# Altium schematic symbol library Resistors.SchLib: 67 symbols (part 2 of 6)
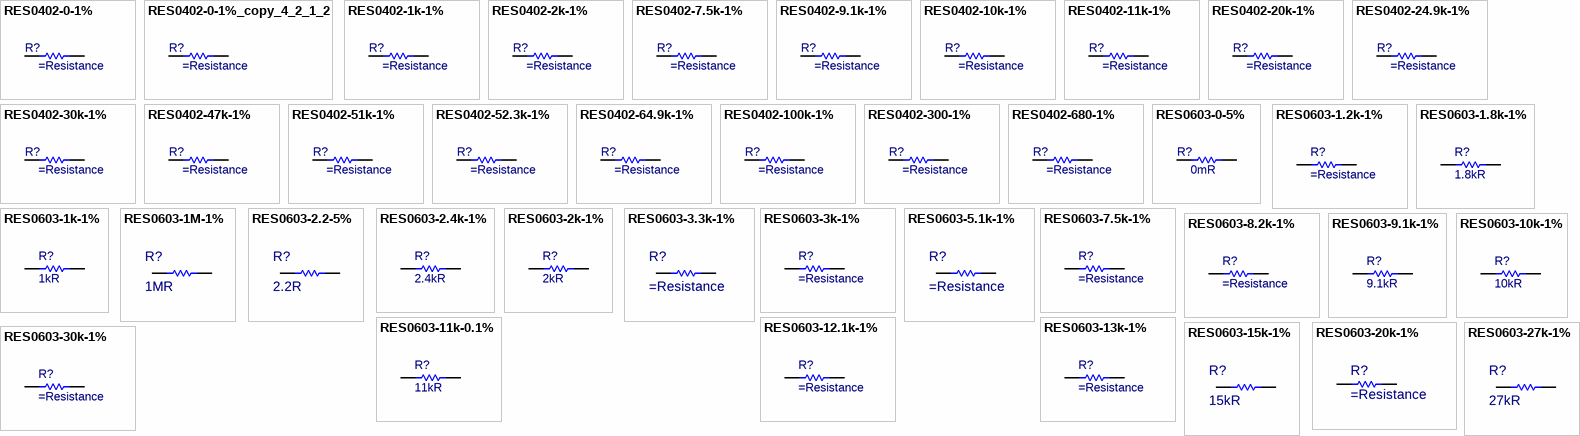
[diagram p3: symbols RES0402-0-1% to RES0603-30k-1%]

## RES0402-300-1%
designator R?
Fixed Resistor, Metal Glaze/thick Film, 0.063W, 300ohm, 50V, 1% +/-Tol, 100ppm/Cel, Surface Mount, 0402; Manufacturer: Vishay; Manufacturer Part Number: CRCW0402300RFKTD; Resistance: 300Ω; Max Power Dissipation: 63mW; Value: 300Ω; Temperature Coefficient: 100ppm/°C; Supplier 1: DigiKey; Supplier Part Number 1: CRCW0402300RFKTD-ND; Supplier: DigiKey; Supplier Part Number: CRCW0402300RFKTD-ND; Category: Chip SMD Resistors; Pricing: 10000=0,0229 (USD); Case/Package: 0402; Case Code (Metric): 0402; Composition: Thick Film; Contact Plating: Lead, Tin; Depth: 500µm; Features: Automotive AEC-Q200; Height: 350µm; Lead Free: Contains Lead; Length: 990.6µm; Lifecycle Status: Production; Max Operating Temperature: 155°C; Military Standard: Not; Min Operating Temperature: -55°C; Mounting Technology: Surface Mount; Number of Terminals: 2; Number of Terminations: 2; Packaging: Tape & Reel (TR); Power Dissipation: 63mW; Power Rating: 63mW; Radiation Hardening: No; REACH SVHC: No; RoHS: Non-Compliant; Tolerance: 1%; Voltage Rating (DC): 50V; Width: 500µm; Working Voltage: 50V; ComponentLink1URL: https://datasheet.octopart.com:443/CRCW0402300RFKTD-Vishay-datasheet-175863636.pdf?src-supplier=IHS; ComponentLink1Description: https://datasheet.octopart.com:443/CRCW0402300RFKTD-Vishay-datasheet-175863636.pdf?src-supplier=IHS; ComponentLink2URL: https://datasheet.octopart.com:443/CRCW0402300RFKTD-Vishay-datasheet-182027442.pdf?src-supplier=IHS; ComponentLink2Description: https://datasheet.octopart.com:443/CRCW0402300RFKTD-Vishay-datasheet-182027442.pdf?src-supplier=IHS; ComponentLink3URL: https://datasheet.octopart.com:443/CRCW0402300RFKTD-Vishay-datasheet-183883876.pdf?src-supplier=Newark; ComponentLink3Description: https://datasheet.octopart.com:443/CRCW0402300RFKTD-Vishay-datasheet-183883876.pdf?src-supplier=Newark; ComponentLink4URL: https://datasheet.octopart.com/D-CRCW-Lead-%28Pb%29-Bearing-Thick-Film%2C-Rectangular-Chip-Resistors-Vishay-datasheet-family-72.pdf; ComponentLink4Description: https://datasheet.octopart.com/D-CRCW-Lead-%28Pb%29-Bearing-Thick-Film%2C-Rectangular-Chip-Resistors-Vishay-datasheet-family-72.pdf; ComponentLink5URL: https://datasheet.octopart.com/CRCW0402300RFKTD-Vishay-datasheet-13242068.pdf; ComponentLink5Description: https://datasheet.octopart.com/CRCW0402300RFKTD-Vishay-datasheet-13242068.pdf; ComponentLink6URL: https://datasheet.octopart.com/CRCW0402300RFKTD-Vishay-datasheet-13195083.pdf; ComponentLink6Description: https://datasheet.octopart.com/CRCW0402300RFKTD-Vishay-datasheet-13195083.pdf; ComponentLink7URL: https://datasheet.octopart.com/CRCW0402300RFKTD-Vishay-datasheet-13034211.pdf; ComponentLink7Description: https://datasheet.octopart.com/CRCW0402300RFKTD-Vishay-datasheet-13034211.pdf; ComponentLink8URL: https://datasheet.octopart.com/CRCW0402300RFKTD-Vishay-datasheet-12600034.pdf; ComponentLink8Description: https://datasheet.octopart.com/CRCW0402300RFKTD-Vishay-datasheet-12600034.pdf; ComponentLink9URL: https://datasheet.octopart.com/CRCW0402300RFKTD-Vishay-datasheet-12532161.pdf; ComponentLink9Description: https://datasheet.octopart.com/CRCW0402300RFKTD-Vishay-datasheet-12532161.pdf; ComponentLink10URL: https://datasheet.octopart.com/CRCW0402300RFKTD-Vishay-datasheet-12517896.pdf; ComponentLink10Description: https://datasheet.octopart.com/CRCW0402300RFKTD-Vishay-datasheet-12517896.pdf; ComponentLink11URL: https://datasheet.octopart.com/CRCW0402300RFKTD-Vishay-datasheet-12509762.pdf; ComponentLink11Description: https://datasheet.octopart.com/CRCW0402300RFKTD-Vishay-datasheet-12509762.pdf; ComponentLink12URL: https://datasheet.octopart.com/CRCW0402300RFKTD-Vishay-datasheet-10322335.pdf; ComponentLink12Description: https://datasheet.octopart.com/CRCW0402300RFKTD-Vishay-datasheet-10322335.pdf; ComponentLink13URL: https://datasheet.octopart.com/CRCW0402300RFKTD-Vishay-datasheet-8788789.pdf; ComponentLink13Description: https://datasheet.octopart.com/CRCW0402300RFKTD-Vishay-datasheet-8788789.pdf; ComponentLink14URL: https://datasheet.octopart.com/CRCW0402300RFKTD-Vishay-datasheet-8361388.pdf; ComponentLink14Description: https://datasheet.octopart.com/CRCW0402300RFKTD-Vishay-datasheet-8361388.pdf; ComponentLink15URL: https://datasheet.octopart.com/CRCW0402300RFKTD-Vishay-datasheet-5306405.pdf; ComponentLink15Description: https://datasheet.octopart.com/CRCW0402300RFKTD-Vishay-datasheet-5306405.pdf; ComponentLink16URL: https://datasheet.octopart.com/CRCW0402300RFKTD-Vishay-datasheet-546287.pdf; ComponentLink16Description: https://datasheet.octopart.com/CRCW0402300RFKTD-Vishay-datasheet-546287.pdf; ComponentLink17URL: http://sigma.octopart.com:80/rohs_statement/Vishay-company-15.pdf?src-supplier=Compliance+Statements; ComponentLink17Description: http://sigma.octopart.com:80/rohs_statement/Vishay-company-15.pdf?src-supplier=Compliance+Statements
footprint R0402 (Chip Resistor, 2-Leads, Body 1.75x0.95mm)
pins: 1, 2

## RES0402-680-1%
designator R?
Res Thick Film 0402 680 Ohm 1% 0.063W(1/16W) ±100ppm/C Pad SMD T/R; Manufacturer: Vishay; Manufacturer Part Number: CRCW0402680RFKEDC; Resistance: 680Ω; Power Dissipation: 63mW; Value: 680Ω; Temperature Coefficient: 100ppm/°C; Working Voltage: 50V; Supplier 1: DigiKey; Supplier Part Number 1: 541-4073-1-ND; Supplier: DigiKey; Supplier Part Number: 541-4073-1-ND; RoHS: Compliant; Category: Chip SMD Resistors; Stock: 206901; Pricing: 1=0,1, 10=0,028, 25=0,0208, 50=0,0168, 100=0,0138, 250=0,01072, 500=0,009, 1000=0,00766, 5000=0,00554 (USD); Case/Package: 0402; China RoHS: Non-Compliant; Height: 300µm; Lead Free: Lead Free; Lifecycle Status: Production; Max Operating Temperature: 155°C; Min Operating Temperature: -55°C; Mounting Technology: Surface Mount; Number of Terminals: 2; Power Rating: 63mW; REACH SVHC: Yes; Schedule B: 8533210045, 8533210045|8533210045|8533210045|8533210045|8533210045; Tolerance: 1%; Width: 500µm; ComponentLink1URL: https://datasheet.octopart.com:443/CRCW0402680RFKEDC-Vishay-datasheet-175423585.pdf?src-supplier=IHS; ComponentLink1Description: https://datasheet.octopart.com:443/CRCW0402680RFKEDC-Vishay-datasheet-175423585.pdf?src-supplier=IHS; ComponentLink2URL: https://datasheet.octopart.com:443/CRCW0402680RFKEDC-Vishay-datasheet-102570912.pdf?src-supplier=Future+Electronics; ComponentLink2Description: https://datasheet.octopart.com:443/CRCW0402680RFKEDC-Vishay-datasheet-102570912.pdf?src-supplier=Future+Electronics; ComponentLink3URL: https://datasheet.octopart.com:443/CRCW0402680RFKEDC-Vishay-datasheet-62316122.pdf?src-supplier=Future+Electronics; ComponentLink3Description: https://datasheet.octopart.com:443/CRCW0402680RFKEDC-Vishay-datasheet-62316122.pdf?src-supplier=Future+Electronics; ComponentLink4URL: http://sigma.octopart.com:80/rohs_statement/Vishay-company-15.pdf?src-supplier=Compliance+Statements; ComponentLink4Description: http://sigma.octopart.com:80/rohs_statement/Vishay-company-15.pdf?src-supplier=Compliance+Statements
footprint R0402 (Chip Resistor, 2-Leads, Body 1.75x0.95mm)
pins: 1, 2

## RES0603-0-5%
designator R?, comment 0mR
RES SMD 0 OHM JUMPER 1/10W 0603; Manufacturer: Bourns; Manufacturer Part Number: CR0603-J/-000ELF; Temperature Coefficient: 500ppm/°C; Max Power Dissipation: 100mW; Voltage Rating (DC): 50V; Tolerance: 1%; ComponentLink1URL: https://datasheet.ciiva.com/9122/chpreztr-9122363.pdf; ComponentLink1Description: https://datasheet.ciiva.com/9122/chpreztr-9122363.pdf; ComponentLink2URL: https://datasheet.ciiva.com/22713/691949-22713239.pdf?src-supplier=Element14; ComponentLink2Description: https://datasheet.ciiva.com/22713/691949-22713239.pdf?src-supplier=Element14; ComponentLink3URL: https://datasheet.ciiva.com/23776/1902866-23776391.pdf?src-supplier=Newark; ComponentLink3Description: https://datasheet.ciiva.com/23776/1902866-23776391.pdf?src-supplier=Newark; ComponentLink4URL: https://datasheet.ciiva.com/16766/70154685-16766760.pdf?src-supplier=Allied+Electronics; ComponentLink4Description: https://datasheet.ciiva.com/16766/70154685-16766760.pdf?src-supplier=Allied+Electronics; ComponentLink5URL: https://datasheet.ciiva.com/30229/159chpreztr-30229129.pdf?src-supplier=Onlinecomponents.com; ComponentLink5Description: https://datasheet.ciiva.com/30229/159chpreztr-30229129.pdf?src-supplier=Onlinecomponents.com; ComponentLink6URL: https://datasheet.ciiva.com/16935/chpreztr-16935963.pdf?src-supplier=Avnet+Europe; ComponentLink6Description: https://datasheet.ciiva.com/16935/chpreztr-16935963.pdf?src-supplier=Avnet+Europe; ComponentLink7URL: https://datasheet.ciiva.com/5543/chpreztr-5543676.pdf?src-supplier=Mouser; ComponentLink7Description: https://datasheet.ciiva.com/5543/chpreztr-5543676.pdf?src-supplier=Mouser; ComponentLink8URL: https://datasheet.ciiva.com/9120/chpreztr-9120764.pdf?src-supplier=Avnet; ComponentLink8Description: https://datasheet.ciiva.com/9120/chpreztr-9120764.pdf?src-supplier=Avnet; ComponentLink9URL: https://datasheet.ciiva.com/46383/1791942-46383790.pdf?src-supplier=Element14; ComponentLink9Description: https://datasheet.ciiva.com/46383/1791942-46383790.pdf?src-supplier=Element14; ComponentLink10URL: https://datasheet.ciiva.com/48692/001055501-da-01-en-smd-wid-cr0603-jw-104elf-100k-ohm-1-10w-48692133.pdf?src-supplier=Conrad; ComponentLink10Description: https://datasheet.ciiva.com/48692/001055501-da-01-en-smd-wid-cr0603-jw-104elf-100k-ohm-1-10w-48692133.pdf?src-supplier=Conrad; ComponentLink11URL: https://datasheet.ciiva.com/39121/775172-39121475.pdf?src-supplier=Jameco; ComponentLink11Description: https://datasheet.ciiva.com/39121/775172-39121475.pdf?src-supplier=Jameco; ComponentLink12URL: https://datasheet.ciiva.com/30052/159chpreztr-30052709.pdf?src-supplier=Onlinecomponents.com; ComponentLink12Description: https://datasheet.ciiva.com/30052/159chpreztr-30052709.pdf?src-supplier=Onlinecomponents.com; ComponentLink13URL: https://datasheet.ciiva.com/16935/chpreztr-16935910.pdf?src-supplier=Avnet+Europe; ComponentLink13Description: https://datasheet.ciiva.com/16935/chpreztr-16935910.pdf?src-supplier=Avnet+Europe; ComponentLink14URL: https://datasheet.ciiva.com/46383/1791942-46383767.pdf?src-supplier=Element14; ComponentLink14Description: https://datasheet.ciiva.com/46383/1791942-46383767.pdf?src-supplier=Element14; ComponentLink15URL: https://datasheet.ciiva.com/7986/1902866-7986185.pdf?src-supplier=Element14; ComponentLink15Description: https://datasheet.ciiva.com/7986/1902866-7986185.pdf?src-supplier=Element14; ComponentLink16URL: https://datasheet.ciiva.com/6547/chpreztr-6547278.pdf?src-supplier=Digi-Key; ComponentLink16Description: https://datasheet.ciiva.com/6547/chpreztr-6547278.pdf?src-supplier=Digi-Key; ComponentLink17URL: https://datasheet.ciiva.com/6547/chpreztr-6547279.pdf?src-supplier=Digi-Key; ComponentLink17Description: https://datasheet.ciiva.com/6547/chpreztr-6547279.pdf?src-supplier=Digi-Key; ComponentLink18URL: https://datasheet.ciiva.com/16757/70154685-16757477.pdf?src-supplier=Allied+Electronics; ComponentLink18Description: https://datasheet.ciiva.com/16757/70154685-16757477.pdf?src-supplier=Allied+Electronics; ComponentLink19URL: https://datasheet.ciiva.com/22713/691949-22713237.pdf?src-supplier=Element14; ComponentLink19Description: https://datasheet.ciiva.com/22713/691949-22713237.pdf?src-supplier=Element14; ComponentLink20URL: https://datasheet.ciiva.com/6564/chpreztr-6564439.pdf?src-supplier=Digi-Key; ComponentLink20Description: https://datasheet.ciiva.com/6564/chpreztr-6564439.pdf?src-supplier=Digi-Key; ComponentLink21URL: https://datasheet.ciiva.com/16935/chpreztr-16935928.pdf?src-supplier=Avnet+Europe; ComponentLink21Description: https://datasheet.ciiva.com/16935/chpreztr-16935928.pdf?src-supplier=Avnet+Europe; ComponentLink22URL: https://datasheet.ciiva.com/6564/chpreztr-6564441.pdf?src-supplier=Digi-Key; ComponentLink22Description: https://datasheet.ciiva.com/6564/chpreztr-6564441.pdf?src-supplier=Digi-Key; ComponentLink23URL: https://datasheet.ciiva.com/9123/chpreztr-9123706.pdf?src-supplier=Avnet; ComponentLink23Description: https://datasheet.ciiva.com/9123/chpreztr-9123706.pdf?src-supplier=Avnet; ComponentLink24URL: https://datasheet.ciiva.com/7986/1902866-7986188.pdf?src-supplier=Element14; ComponentLink24Description: https://datasheet.ciiva.com/7986/1902866-7986188.pdf?src-supplier=Element14; ComponentLink25URL: https://datasheet.ciiva.com/46383/691949-46383788.pdf?src-supplier=Element14; ComponentLink25Description: https://datasheet.ciiva.com/46383/691949-46383788.pdf?src-supplier=Element14; ComponentLink26URL: https://datasheet.ciiva.com/11808/0900766b80fcdb72-11808035.pdf?src-supplier=RSComponents; ComponentLink26Description: https://datasheet.ciiva.com/11808/0900766b80fcdb72-11808035.pdf?src-supplier=RSComponents; ComponentLink27URL: https://datasheet.ciiva.com/19466/774882-19466523.pdf?src-supplier=Jameco; ComponentLink27Description: https://datasheet.ciiva.com/19466/774882-19466523.pdf?src-supplier=Jameco; ComponentLink28URL: https://datasheet.ciiva.com/6547/chpreztr-6547349.pdf?src-supplier=Digi-Key; ComponentLink28Description: https://datasheet.ciiva.com/6547/chpreztr-6547349.pdf?src-supplier=Digi-Key; ComponentLink29URL: https://datasheet.ciiva.com/16941/chpreztr-16941637.pdf?src-supplier=Avnet+Europe; ComponentLink29Description: https://datasheet.ciiva.com/16941/chpreztr-16941637.pdf?src-supplier=Avnet+Europe; ComponentLink30URL: https://datasheet.ciiva.com/22693/1902866-22693205.pdf?src-supplier=Element14; ComponentLink30Description: https://datasheet.ciiva.com/22693/1902866-22693205.pdf?src-supplier=Element14; ComponentLink31URL: https://datasheet.ciiva.com/6547/chpreztr-6547350.pdf?src-supplier=Digi-Key; ComponentLink31Description: https://datasheet.ciiva.com/6547/chpreztr-6547350.pdf?src-supplier=Digi-Key; ComponentLink32URL: https://datasheet.ciiva.com/7001/1902866-7001622.pdf?src-supplier=Newark; ComponentLink32Description: https://datasheet.ciiva.com/7001/1902866-7001622.pdf?src-supplier=Newark; ComponentLink33URL: https://datasheet.ciiva.com/30115/159chpreztr-30115222.pdf?src-supplier=Onlinecomponents.com; ComponentLink33Description: https://datasheet.ciiva.com/30115/159chpreztr-30115222.pdf?src-supplier=Onlinecomponents.com; ComponentLink34URL: https://datasheet.ciiva.com/6547/chpreztr-6547351.pdf?src-supplier=Digi-Key; ComponentLink34Description: https://datasheet.ciiva.com/6547/chpreztr-6547351.pdf?src-supplier=Digi-Key; ComponentLink35URL: https://datasheet.ciiva.com/16757/70154685-16757482.pdf?src-supplier=Allied+Electronics; ComponentLink35Description: https://datasheet.ciiva.com/16757/70154685-16757482.pdf?src-supplier=Allied+Electronics; ComponentLink36URL: https://datasheet.ciiva.com/5546/chpreztr-5546283.pdf?src-supplier=Mouser; ComponentLink36Description: https://datasheet.ciiva.com/5546/chpreztr-5546283.pdf?src-supplier=Mouser; ComponentLink37URL: https://datasheet.ciiva.com/7986/691949-7986156.pdf?src-supplier=Element14; ComponentLink37Description: https://datasheet.ciiva.com/7986/691949-7986156.pdf?src-supplier=Element14; ComponentLink38URL: https://datasheet.ciiva.com/3255/chpreztr-3255917.pdf?src-supplier=Avnet; ComponentLink38Description: https://datasheet.ciiva.com/3255/chpreztr-3255917.pdf?src-supplier=Avnet; ComponentLink39URL: https://datasheet.ciiva.com/5547/chpreztr-5547814.pdf?src-supplier=Mouser; ComponentLink39Description: https://datasheet.ciiva.com/5547/chpreztr-5547814.pdf?src-supplier=Mouser; ComponentLink40URL: https://datasheet.ciiva.com/18594/chpreztr-18594942.pdf?src-supplier=Digi-Key; ComponentLink40Description: https://datasheet.ciiva.com/18594/chpreztr-18594942.pdf?src-supplier=Digi-Key; ComponentLink41URL: https://datasheet.ciiva.com/18594/chpreztr-18594943.pdf?src-supplier=Digi-Key; ComponentLink41Description: https://datasheet.ciiva.com/18594/chpreztr-18594943.pdf?src-supplier=Digi-Key; ComponentLink42URL: https://datasheet.ciiva.com/9119/chpreztr-9119642.pdf?src-supplier=Avnet; ComponentLink42Description: https://datasheet.ciiva.com/9119/chpreztr-9119642.pdf?src-supplier=Avnet; ComponentLink43URL: https://datasheet.ciiva.com/14986/chpreztr-14986477.pdf?src-supplier=Digi-Key; ComponentLink43Description: https://datasheet.ciiva.com/14986/chpreztr-14986477.pdf?src-supplier=Digi-Key; ComponentLink44URL: https://datasheet.ciiva.com/5545/chpreztr-5545629.pdf?src-supplier=Mouser; ComponentLink44Description: https://datasheet.ciiva.com/5545/chpreztr-5545629.pdf?src-supplier=Mouser; ComponentLink45URL: https://datasheet.ciiva.com/9122/chpreztr-9122039.pdf?src-supplier=Avnet; ComponentLink45Description: https://datasheet.ciiva.com/9122/chpreztr-9122039.pdf?src-supplier=Avnet; ComponentLink46URL: https://datasheet.ciiva.com/16937/chpreztr-16937562.pdf?src-supplier=Avnet+Europe; ComponentLink46Description: https://datasheet.ciiva.com/16937/chpreztr-16937562.pdf?src-supplier=Avnet+Europe; Supplier 1: Digi-Key; RoHS: Yes; Category: Chip SMD Resistors; Stock 1: 260094; Pricing 1: 1=0,10000, 10=0,01400, 25=0,01040, 50=0,00800, 100=0,00580, 250=0,00444, 500=0,00356, 1000=0,00262 (USD); Mount: Surface Mount; Case/Package: 0603; Number of Pins: 2; Contact Plating: Tin; Case Code (Imperial): 0603; Case Code (Metric): 1608; Min Operating Temperature: -55°C; Max Operating Temperature: 155°C; Resistance: 0mR; Composition: Thick Film; Termination: SMD/SMT; Military Standard: Not; Packaging: Tape and Reel; Power Rating: 100mW; Voltage Rating: 50V; Package Quantity: 5000; Length: 1.6mm; Height: 0.45mm; Depth: 0.8mm; Thickness: 457um; Width: 0.8mm; Radiation Hardening: No; REACH SVHC: No SVHC; ComponentLink47URL: https://datasheet.ciiva.com/11809/0900766b80fcdb72-11809586.pdf?src-supplier=RSComponents; ComponentLink47Description: https://datasheet.ciiva.com/11809/0900766b80fcdb72-11809586.pdf?src-supplier=RSComponents; ComponentLink48URL: https://datasheet.ciiva.com/16939/chpreztr-16939623.pdf?src-supplier=Avnet+Europe; ComponentLink48Description: https://datasheet.ciiva.com/16939/chpreztr-16939623.pdf?src-supplier=Avnet+Europe; ComponentLink49URL: https://datasheet.ciiva.com/30062/159chpreztr-30062601.pdf?src-supplier=Onlinecomponents.com; ComponentLink49Description: https://datasheet.ciiva.com/30062/159chpreztr-30062601.pdf?src-supplier=Onlinecomponents.com; ComponentLink50URL: https://datasheet.ciiva.com/7986/691949-7986171.pdf?src-supplier=Element14; ComponentLink50Description: https://datasheet.ciiva.com/7986/691949-7986171.pdf?src-supplier=Element14; ComponentLink51URL: https://datasheet.ciiva.com/16761/70154685-16761515.pdf?src-supplier=Allied+Electronics; ComponentLink51Description: https://datasheet.ciiva.com/16761/70154685-16761515.pdf?src-supplier=Allied+Electronics; ComponentLink52URL: https://datasheet.ciiva.com/5545/chpreztr-5545708.pdf?src-supplier=Mouser; ComponentLink52Description: https://datasheet.ciiva.com/5545/chpreztr-5545708.pdf?src-supplier=Mouser; ComponentLink53URL: https://datasheet.ciiva.com/7660/1856384-7660956.pdf?src-supplier=Element14; ComponentLink53Description: https://datasheet.ciiva.com/7660/1856384-7660956.pdf?src-supplier=Element14; ComponentLink54URL: https://datasheet.ciiva.com/7001/1902866-7001645.pdf?src-supplier=Newark; ComponentLink54Description: https://datasheet.ciiva.com/7001/1902866-7001645.pdf?src-supplier=Newark; ComponentLink55URL: https://datasheet.ciiva.com/22693/1902866-22693213.pdf?src-supplier=Element14; ComponentLink55Description: https://datasheet.ciiva.com/22693/1902866-22693213.pdf?src-supplier=Element14; ComponentLink56URL: https://datasheet.ciiva.com/48692/001055497-da-01-en-smd-wid-cr0603-j-000elf-0-0-ohm-1-10w-48692135.pdf?src-supplier=Conrad; ComponentLink56Description: https://datasheet.ciiva.com/48692/001055497-da-01-en-smd-wid-cr0603-j-000elf-0-0-ohm-1-10w-48692135.pdf?src-supplier=Conrad; Supplier Part Number 1: CR0603-J/-000ELFCT-ND
footprint R0603 (Chip Resistor, 2-Leads, Body 1.75x0.95mm)
pins: 1, 2

## RES0603-1.2k-1%
designator R?
RES 1.2K OHM 1% 1/10W 0603; Manufacturer: TE Connectivity; Manufacturer Part Number: CRGCQ0603F1K2; Manufacturer Lifecycle Status: ACTIVE; Resistance: 1.2kΩ; Operating Supply Voltage: 75V; Power Dissipation: 100mW; Value: 1.2kΩ; Temperature Coefficient: 100ppm/°C; Supplier 1: DigiKey; Supplier Part Number 1: A129689CT-ND; Supplier: DigiKey; Supplier Part Number: A129689CT-ND; RoHS: Compliant; Category: Chip SMD Resistors; Stock: 33667; Pricing: 1=0,1, 10=0,029, 25=0,0212, 50=0,0172, 100=0,014, 250=0,01092, 500=0,00918, 1000=0,00782 (USD); Ambient Temperature Range High: 70°C; Case/Package: 0603; China RoHS: Non-Compliant; Composition: Thick Film; Height: 450µm; Lifecycle Status: Production; Max Operating Temperature: 155°C; Min Operating Temperature: -55°C; Mounting Technology: Surface Mount; Number of Terminals: 2; Packaging: Cut Tape; Power Rating: 100mW; REACH SVHC: Yes; Schedule B: 8533210025, 8533210025|8533210025|8533210025|8533210025|8533210025, 8533210045; Tolerance: 1%; Voltage Rating: 75V; Voltage Rating (DC): 75V; Width: 800µm; Working Voltage: 75V; ComponentLink1URL: https://datasheet.octopart.com:443/CRGCQ0603F1K2-TE-Connectivity-datasheet-114679081.pdf?src-supplier=Master+Electronics; ComponentLink1Description: https://datasheet.octopart.com:443/CRGCQ0603F1K2-TE-Connectivity-datasheet-114679081.pdf?src-supplier=Master+Electronics; ComponentLink2URL: https://datasheet.octopart.com:443/2-2176339-6-TE-Connectivity---AMP-datasheet-189108688.pdf?src-supplier=Master+Electronics; ComponentLink2Description: https://datasheet.octopart.com:443/2-2176339-6-TE-Connectivity---AMP-datasheet-189108688.pdf?src-supplier=Master+Electronics; ComponentLink3URL: https://sigma.octopart.com:443/114683329/technical_drawing/TE-Connectivity-CRGCQ0603F1K2.pdf?src-supplier=Sager+Electronics; ComponentLink3Description: https://sigma.octopart.com:443/114683329/technical_drawing/TE-Connectivity-CRGCQ0603F1K2.pdf?src-supplier=Sager+Electronics
footprint R0603 (Chip Resistor, 2-Leads, Body 1.75x0.95mm)
pins: 1, 2

## RES0603-1.8k-1%
designator R?, comment 1.8kR
RES SMD 1.8K OHM 1% 1/10W 0603; Manufacturer: Bourns; Manufacturer Part Number: CR0603-FX-1801ELF; Max Power Dissipation: 100mW; Value: 1.8kΩ; Temperature Coefficient: 100ppm/°C; Voltage Rating: 75V; Voltage Rating (DC): 50V; Resistance: 1.8kR; Supplier: DigiKey; Supplier Part Number: CR0603-FX-1801ELFCT-ND; RoHS: Compliant; Category: Chip SMD Resistors; Stock: 12777; Pricing: 1=0,1, 10=0,02, 25=0,0144, 50=0,0114, 100=0,0091, 250=0,00696, 500=0,00576, 1000=0,0048 (USD); Case/Package: 0603; Case Code (Imperial): 0603; Case Code (Metric): 1608; China RoHS: Non-Compliant; Composition: Thick Film; Contact Plating: Tin; Depth: 800µm; Features: Moisture Resistant; Height: 450µm; Lifecycle Status: Production; Max Operating Temperature: 155°C; Military Standard: Not; Min Operating Temperature: -55°C; Mounting Technology: Surface Mount; Number of Terminals: 2; Number of Terminations: 2; Packaging: Tape & Reel; Power Dissipation: 100mW; Power Rating: 100mW; Radiation Hardening: No; REACH SVHC: Yes; Schedule B: 8533210045, 8533210045|8533210045, 8533210045|8533210045|8533210045, 8533210045|8533210045|8533210045|8533210045; Termination: SMD/SMT; Tolerance: 1%; Width: 800µm; Working Voltage: 75V; ComponentLink1URL: https://datasheet.octopart.com:443/CR0603-FX-1801ELF-Bourns-datasheet-159578630.pdf?src-supplier=IHS; ComponentLink1Description: https://datasheet.octopart.com:443/CR0603-FX-1801ELF-Bourns-datasheet-159578630.pdf?src-supplier=IHS; ComponentLink2URL: https://datasheet.octopart.com:443/CR0603-FX-1801ELF-Bourns-datasheet-181955239.pdf?src-supplier=IHS; ComponentLink2Description: https://datasheet.octopart.com:443/CR0603-FX-1801ELF-Bourns-datasheet-181955239.pdf?src-supplier=IHS; ComponentLink3URL: https://datasheet.octopart.com:443/CR0603-FX-1801ELF-Bourns-datasheet-68301634.pdf?src-supplier=Burklin+Elektronik; ComponentLink3Description: https://datasheet.octopart.com:443/CR0603-FX-1801ELF-Bourns-datasheet-68301634.pdf?src-supplier=Burklin+Elektronik; ComponentLink4URL: https://datasheet.octopart.com/CR0603-FX-1801ELF-Bourns-datasheet-5318152.pdf; ComponentLink4Description: https://datasheet.octopart.com/CR0603-FX-1801ELF-Bourns-datasheet-5318152.pdf; ComponentLink5URL: https://datasheet.octopart.com:443/CR0603-FX-1801ELF-Bourns-datasheet-154729663.pdf?src-supplier=Electro+Sonic; ComponentLink5Description: https://datasheet.octopart.com:443/CR0603-FX-1801ELF-Bourns-datasheet-154729663.pdf?src-supplier=Electro+Sonic; ComponentLink6URL: https://datasheet.octopart.com:443/CR0603-FX-1801ELF-Bourns-datasheet-140567134.pdf?src-supplier=Arrow.cn; ComponentLink6Description: https://datasheet.octopart.com:443/CR0603-FX-1801ELF-Bourns-datasheet-140567134.pdf?src-supplier=Arrow.cn; ComponentLink7URL: http://sigma.octopart.com:80/conflict_mineral_statement/Bourns-company-36.pdf?src-supplier=Compliance+Statements; ComponentLink7Description: http://sigma.octopart.com:80/conflict_mineral_statement/Bourns-company-36.pdf?src-supplier=Compliance+Statements; Supplier 1: DigiKey; Supplier Part Number 1: CR0603-FX-1801ELFCT-ND
footprint R0603 (Chip Resistor, 2-Leads, Body 1.75x0.95mm)
pins: 1, 2

## RES0603-1k-1%
designator R?, comment 1kR
RES SMD 1K OHM 1% 1/10W 0603; Manufacturer: Bourns; Manufacturer Part Number: CR0603-FX-1001ELF; Temperature Coefficient: 100ppm/°C; Voltage Rating (DC): 50V; Power Rating: 100mW; ComponentLink1URL: https://datasheet.ciiva.com/9122/chpreztr-9122363.pdf; ComponentLink1Description: https://datasheet.ciiva.com/9122/chpreztr-9122363.pdf; ComponentLink2URL: https://datasheet.ciiva.com/22713/691949-22713239.pdf?src-supplier=Element14; ComponentLink2Description: https://datasheet.ciiva.com/22713/691949-22713239.pdf?src-supplier=Element14; ComponentLink3URL: https://datasheet.ciiva.com/23776/1902866-23776391.pdf?src-supplier=Newark; ComponentLink3Description: https://datasheet.ciiva.com/23776/1902866-23776391.pdf?src-supplier=Newark; ComponentLink4URL: https://datasheet.ciiva.com/16766/70154685-16766760.pdf?src-supplier=Allied+Electronics; ComponentLink4Description: https://datasheet.ciiva.com/16766/70154685-16766760.pdf?src-supplier=Allied+Electronics; ComponentLink5URL: https://datasheet.ciiva.com/30229/159chpreztr-30229129.pdf?src-supplier=Onlinecomponents.com; ComponentLink5Description: https://datasheet.ciiva.com/30229/159chpreztr-30229129.pdf?src-supplier=Onlinecomponents.com; ComponentLink6URL: https://datasheet.ciiva.com/16935/chpreztr-16935963.pdf?src-supplier=Avnet+Europe; ComponentLink6Description: https://datasheet.ciiva.com/16935/chpreztr-16935963.pdf?src-supplier=Avnet+Europe; ComponentLink7URL: https://datasheet.ciiva.com/5543/chpreztr-5543676.pdf?src-supplier=Mouser; ComponentLink7Description: https://datasheet.ciiva.com/5543/chpreztr-5543676.pdf?src-supplier=Mouser; ComponentLink8URL: https://datasheet.ciiva.com/9120/chpreztr-9120764.pdf?src-supplier=Avnet; ComponentLink8Description: https://datasheet.ciiva.com/9120/chpreztr-9120764.pdf?src-supplier=Avnet; ComponentLink9URL: https://datasheet.ciiva.com/46383/1791942-46383790.pdf?src-supplier=Element14; ComponentLink9Description: https://datasheet.ciiva.com/46383/1791942-46383790.pdf?src-supplier=Element14; ComponentLink10URL: https://datasheet.ciiva.com/48692/001055501-da-01-en-smd-wid-cr0603-jw-104elf-100k-ohm-1-10w-48692133.pdf?src-supplier=Conrad; ComponentLink10Description: https://datasheet.ciiva.com/48692/001055501-da-01-en-smd-wid-cr0603-jw-104elf-100k-ohm-1-10w-48692133.pdf?src-supplier=Conrad; ComponentLink11URL: https://datasheet.ciiva.com/39121/775172-39121475.pdf?src-supplier=Jameco; ComponentLink11Description: https://datasheet.ciiva.com/39121/775172-39121475.pdf?src-supplier=Jameco; ComponentLink12URL: https://datasheet.ciiva.com/30052/159chpreztr-30052709.pdf?src-supplier=Onlinecomponents.com; ComponentLink12Description: https://datasheet.ciiva.com/30052/159chpreztr-30052709.pdf?src-supplier=Onlinecomponents.com; ComponentLink13URL: https://datasheet.ciiva.com/16935/chpreztr-16935910.pdf?src-supplier=Avnet+Europe; ComponentLink13Description: https://datasheet.ciiva.com/16935/chpreztr-16935910.pdf?src-supplier=Avnet+Europe; ComponentLink14URL: https://datasheet.ciiva.com/46383/1791942-46383767.pdf?src-supplier=Element14; ComponentLink14Description: https://datasheet.ciiva.com/46383/1791942-46383767.pdf?src-supplier=Element14; ComponentLink15URL: https://datasheet.ciiva.com/7986/1902866-7986185.pdf?src-supplier=Element14; ComponentLink15Description: https://datasheet.ciiva.com/7986/1902866-7986185.pdf?src-supplier=Element14; ComponentLink16URL: https://datasheet.ciiva.com/6547/chpreztr-6547278.pdf?src-supplier=Digi-Key; ComponentLink16Description: https://datasheet.ciiva.com/6547/chpreztr-6547278.pdf?src-supplier=Digi-Key; ComponentLink17URL: https://datasheet.ciiva.com/6547/chpreztr-6547279.pdf?src-supplier=Digi-Key; ComponentLink17Description: https://datasheet.ciiva.com/6547/chpreztr-6547279.pdf?src-supplier=Digi-Key; ComponentLink18URL: https://datasheet.ciiva.com/16757/70154685-16757477.pdf?src-supplier=Allied+Electronics; ComponentLink18Description: https://datasheet.ciiva.com/16757/70154685-16757477.pdf?src-supplier=Allied+Electronics; ComponentLink19URL: https://datasheet.ciiva.com/22713/691949-22713237.pdf?src-supplier=Element14; ComponentLink19Description: https://datasheet.ciiva.com/22713/691949-22713237.pdf?src-supplier=Element14; ComponentLink20URL: https://datasheet.ciiva.com/6564/chpreztr-6564439.pdf?src-supplier=Digi-Key; ComponentLink20Description: https://datasheet.ciiva.com/6564/chpreztr-6564439.pdf?src-supplier=Digi-Key; ComponentLink21URL: https://datasheet.ciiva.com/16935/chpreztr-16935928.pdf?src-supplier=Avnet+Europe; ComponentLink21Description: https://datasheet.ciiva.com/16935/chpreztr-16935928.pdf?src-supplier=Avnet+Europe; ComponentLink22URL: https://datasheet.ciiva.com/6564/chpreztr-6564441.pdf?src-supplier=Digi-Key; ComponentLink22Description: https://datasheet.ciiva.com/6564/chpreztr-6564441.pdf?src-supplier=Digi-Key; ComponentLink23URL: https://datasheet.ciiva.com/9123/chpreztr-9123706.pdf?src-supplier=Avnet; ComponentLink23Description: https://datasheet.ciiva.com/9123/chpreztr-9123706.pdf?src-supplier=Avnet; ComponentLink24URL: https://datasheet.ciiva.com/7986/1902866-7986188.pdf?src-supplier=Element14; ComponentLink24Description: https://datasheet.ciiva.com/7986/1902866-7986188.pdf?src-supplier=Element14; ComponentLink25URL: https://datasheet.ciiva.com/46383/691949-46383788.pdf?src-supplier=Element14; ComponentLink25Description: https://datasheet.ciiva.com/46383/691949-46383788.pdf?src-supplier=Element14; Supplier 1: Digi-Key; RoHS: Yes; Category: Chip SMD Resistors; Stock 1: 311414; Pricing 1: 1=0,10000, 10=0,01600, 100=0,00650, 1000=0,00292, 2500=0,00253 (USD); Mount: Surface Mount; Case/Package: 0603; Number of Pins: 2; Contact Plating: Tin; Case Code (Metric): 1608; Case Code (Imperial): 0603; Min Operating Temperature: -55°C; Max Operating Temperature: 155°C; Resistance: 1kR; Tolerance: 1%; Composition: Thick Film; Military Standard: Not; Packaging: Tape and Reel; Voltage Rating: 50V; Package Quantity: 1; Max Power Dissipation: 100mW; Features: Moisture Resistant; Number of Terminations: 2; Termination: SMD/SMT; Working Voltage: 50V; Length: 1.6mm; Height: 0.45mm; Depth: 0.8mm; Thickness: 457um; Width: 0.8mm; Radiation Hardening: No; REACH SVHC: No SVHC; ComponentLink26URL: https://datasheet.ciiva.com/11808/0900766b80fcdb72-11808035.pdf?src-supplier=RSComponents; ComponentLink26Description: https://datasheet.ciiva.com/11808/0900766b80fcdb72-11808035.pdf?src-supplier=RSComponents; ComponentLink27URL: https://datasheet.ciiva.com/19466/774882-19466523.pdf?src-supplier=Jameco; ComponentLink27Description: https://datasheet.ciiva.com/19466/774882-19466523.pdf?src-supplier=Jameco; ComponentLink28URL: https://datasheet.ciiva.com/6547/chpreztr-6547349.pdf?src-supplier=Digi-Key; ComponentLink28Description: https://datasheet.ciiva.com/6547/chpreztr-6547349.pdf?src-supplier=Digi-Key; ComponentLink29URL: https://datasheet.ciiva.com/16941/chpreztr-16941637.pdf?src-supplier=Avnet+Europe; ComponentLink29Description: https://datasheet.ciiva.com/16941/chpreztr-16941637.pdf?src-supplier=Avnet+Europe; ComponentLink30URL: https://datasheet.ciiva.com/22693/1902866-22693205.pdf?src-supplier=Element14; ComponentLink30Description: https://datasheet.ciiva.com/22693/1902866-22693205.pdf?src-supplier=Element14; ComponentLink31URL: https://datasheet.ciiva.com/6547/chpreztr-6547350.pdf?src-supplier=Digi-Key; ComponentLink31Description: https://datasheet.ciiva.com/6547/chpreztr-6547350.pdf?src-supplier=Digi-Key; ComponentLink32URL: https://datasheet.ciiva.com/7001/1902866-7001622.pdf?src-supplier=Newark; ComponentLink32Description: https://datasheet.ciiva.com/7001/1902866-7001622.pdf?src-supplier=Newark; ComponentLink33URL: https://datasheet.ciiva.com/30115/159chpreztr-30115222.pdf?src-supplier=Onlinecomponents.com; ComponentLink33Description: https://datasheet.ciiva.com/30115/159chpreztr-30115222.pdf?src-supplier=Onlinecomponents.com; ComponentLink34URL: https://datasheet.ciiva.com/6547/chpreztr-6547351.pdf?src-supplier=Digi-Key; ComponentLink34Description: https://datasheet.ciiva.com/6547/chpreztr-6547351.pdf?src-supplier=Digi-Key; ComponentLink35URL: https://datasheet.ciiva.com/16757/70154685-16757482.pdf?src-supplier=Allied+Electronics; ComponentLink35Description: https://datasheet.ciiva.com/16757/70154685-16757482.pdf?src-supplier=Allied+Electronics; ComponentLink36URL: https://datasheet.ciiva.com/5546/chpreztr-5546283.pdf?src-supplier=Mouser; ComponentLink36Description: https://datasheet.ciiva.com/5546/chpreztr-5546283.pdf?src-supplier=Mouser; ComponentLink37URL: https://datasheet.ciiva.com/7986/691949-7986156.pdf?src-supplier=Element14; ComponentLink37Description: https://datasheet.ciiva.com/7986/691949-7986156.pdf?src-supplier=Element14; ComponentLink38URL: https://datasheet.ciiva.com/3255/chpreztr-3255917.pdf?src-supplier=Avnet; ComponentLink38Description: https://datasheet.ciiva.com/3255/chpreztr-3255917.pdf?src-supplier=Avnet; Supplier Part Number 1: CR0603-FX-1001ELFCT-ND
footprint R0603 (Chip Resistor, 2-Leads, Body 1.75x0.95mm)
pins: 1, 2

## RES0603-1M-1%
designator R?, comment 1MR
RES SMD 1M OHM 1% 1/10W 0603; Manufacturer: Vishay Dale; Manufacturer Part Number: CRCW06031M00FKEB; Power Rating: 100mW; Voltage Rating: 75V; Temperature Coefficient: 100ppm/°C; Supplier 1: Digi-Key; RoHS: Yes; Category: Chip SMD Resistors; Stock 1: 2624; Pricing 1: 1=0.10000, 10=0.03600, 100=0.01450, 1000=0.00652, 2500=0.00566, 5000=0.00468 (USD); Case/Package: 0603; Number of Pins: 2; Weight: 7.1E-05oz; Case Code (Imperial): 0603; Case Code (Metric): 1608; Contact Plating: Tin; Size Code: 0603; Min Operating Temperature: -55°C; Max Operating Temperature: 155°C; Tolerance: 1%; Resistance: 1MR; Packaging: Tape and Reel; Package Quantity: 10000; Resistor Type: Thick Film; Termination: SMD/SMT; Number of Terminations: 2; Max Power Dissipation: 100mW; Voltage Rating (DC): 75V; Features: Automotive AEC-Q200; Series: CRCW; Construction: Rectangular; Resistance Tolerance: 1%; Length: 1.55mm; Width: 0.85mm; Height: 0.02inch; Depth: 0.85mm; Radiation Hardening: No; Lead Free: Lead Free; RoHS Compliant: Yes; REACH SVHC: Unknown; Military Standard: Not; ComponentLink1URL: https://datasheet.ciiva.com/5543/dcrcwe3-109170-5543738.pdf?src-supplier=Mouser; ComponentLink1Description: https://datasheet.ciiva.com/5543/dcrcwe3-109170-5543738.pdf?src-supplier=Mouser; Supplier Part Number 1: 541-CRCW06031M00FKEBCT-ND
footprint R0603 (Chip Resistor, 2-Leads, Body 1.75x0.95mm)
pins: 1, 2

## RES0603-2.2-5%
designator R?, comment 2.2R
RES SMD 2.2 OHM 5% 1/10W 0603; Manufacturer: Panasonic; Manufacturer Part Number: ERJ-3GEYJ2R2V; Temperature Coefficient: 600ppm/°C; Max Power Dissipation: 100mW; Voltage Rating: 75V; Voltage Rating (DC): 50V; Supplier 1: Digi-Key; RoHS: Yes; Category: Chip SMD Resistors; Stock 1: 2962101; Pricing 1: 1=0.10000, 10=0.05000, 100=0.02020, 1000=0.00905, 2500=0.00786 (USD); Mount: Surface Mount; Case/Package: 0603; Contact Plating: Tin; Case Code (Imperial): 0603; Case Code (Metric): 1608; Min Operating Temperature: -55°C; Max Operating Temperature: 155°C; Tolerance: 5%; Resistor Type: Thick Film; Packaging: Tape and Reel; Package Quantity: 1; Resistance: 2.2R; Power Rating: 100mW; Number of Terminations: 2; Termination: SMD/SMT; Features: Automotive AEC-Q200; Series: ERJ; Resistance Tolerance: 5%; Construction: Rectangular; Technology: THICK FILM; Length: 1.6mm; Width: 0.8mm; Height: 0.45mm; Depth: 0.8mm; Radiation Hardening: No; REACH SVHC: No SVHC; Military Standard: Not; Lead Free: Lead Free; RoHS Compliant: Yes; ComponentLink1URL: https://datasheet.ciiva.com/11821/0900766b80f806dd-11821449.pdf?src-supplier=RSComponents; ComponentLink1Description: https://datasheet.ciiva.com/11821/0900766b80f806dd-11821449.pdf?src-supplier=RSComponents; ComponentLink2URL: https://datasheet.ciiva.com/46374/1500035-46374005.pdf?src-supplier=Element14; ComponentLink2Description: https://datasheet.ciiva.com/46374/1500035-46374005.pdf?src-supplier=Element14; ComponentLink3URL: https://datasheet.ciiva.com/9117/aoa0000ce1-9117159.pdf?src-supplier=Avnet; ComponentLink3Description: https://datasheet.ciiva.com/9117/aoa0000ce1-9117159.pdf?src-supplier=Avnet; ComponentLink4URL: https://datasheet.ciiva.com/24025/aoa0000ce1-37422-24025463.pdf?src-supplier=Mouser; ComponentLink4Description: https://datasheet.ciiva.com/24025/aoa0000ce1-37422-24025463.pdf?src-supplier=Mouser; ComponentLink5URL: https://datasheet.ciiva.com/16765/70255313-16765018.pdf?src-supplier=Allied+Electronics; ComponentLink5Description: https://datasheet.ciiva.com/16765/70255313-16765018.pdf?src-supplier=Allied+Electronics; ComponentLink6URL: https://datasheet.ciiva.com/30150/4aoa0000ce1-30150090.pdf?src-supplier=Onlinecomponents.com; ComponentLink6Description: https://datasheet.ciiva.com/30150/4aoa0000ce1-30150090.pdf?src-supplier=Onlinecomponents.com; ComponentLink7URL: https://datasheet.ciiva.com/46386/1500035-46386764.pdf?src-supplier=Element14; ComponentLink7Description: https://datasheet.ciiva.com/46386/1500035-46386764.pdf?src-supplier=Element14; ComponentLink8URL: https://datasheet.ciiva.com/16762/70255313-16762317.pdf?src-supplier=Allied+Electronics; ComponentLink8Description: https://datasheet.ciiva.com/16762/70255313-16762317.pdf?src-supplier=Allied+Electronics; ComponentLink9URL: https://datasheet.ciiva.com/17214/aoa0000ce1-17214157.pdf?src-supplier=Avnet+Europe; ComponentLink9Description: https://datasheet.ciiva.com/17214/aoa0000ce1-17214157.pdf?src-supplier=Avnet+Europe; Supplier Part Number 1: P2.2GCT-ND
footprint R0603 (Chip Resistor, 2-Leads, Body 1.75x0.95mm)
pins: 1, 2

## RES0603-2.4k-1%
designator R?, comment 2.4kR
RES 2.4K OHM 1% 1/5W 0603; Manufacturer: Yageo Group; Manufacturer Part Number: AC0603FR-7W2K4L; Power Dissipation: 200mW; Value: 2.4kΩ; Temperature Coefficient: 100ppm/°C; Voltage Rating: 75V; Resistance: 2.4kR; Supplier 1: DigiKey; Supplier Part Number 1: 13-AC0603FR-7W2K4LTR-ND; Supplier: DigiKey; Supplier Part Number: 13-AC0603FR-7W2K4LTR-ND; RoHS: Compliant; Category: Chip SMD Resistors; Pricing: 5000=0,0064 (USD); Case/Package: 0603; China RoHS: Non-Compliant; Composition: Thick Film; Height: 450µm; Lifecycle Status: Production; Max Operating Temperature: 155°C; Min Operating Temperature: -55°C; Mounting Technology: Surface Mount; Number of Terminals: 2; Packaging: Tape & Reel; Power Rating: 200mW; REACH SVHC: Yes; Tolerance: 1%; Width: 800µm; Working Voltage: 75V; ComponentLink1URL: https://datasheet.octopart.com:443/AC0603FR-7W2K4L-Yageo-datasheet-182189377.pdf?src-supplier=IHS; ComponentLink1Description: https://datasheet.octopart.com:443/AC0603FR-7W2K4L-Yageo-datasheet-182189377.pdf?src-supplier=IHS; ComponentLink2URL: https://datasheet.octopart.com:443/AC0603FR-7W2K4L-Yageo-datasheet-86786639.pdf?src-supplier=Upverter; ComponentLink2Description: https://datasheet.octopart.com:443/AC0603FR-7W2K4L-Yageo-datasheet-86786639.pdf?src-supplier=Upverter; ComponentLink3URL: https://datasheet.octopart.com/AC0603FR-7W2K4L-Yageo-datasheet-12512238.pdf; ComponentLink3Description: https://datasheet.octopart.com/AC0603FR-7W2K4L-Yageo-datasheet-12512238.pdf; ComponentLink4URL: http://sigma.octopart.com:80/rohs_statement/Yageo-company-2.pdf?src-supplier=Compliance+Statements; ComponentLink4Description: http://sigma.octopart.com:80/rohs_statement/Yageo-company-2.pdf?src-supplier=Compliance+Statements; ComponentLink5URL: http://sigma.octopart.com:80/conflict_mineral_statement/Yageo-company-3.pdf?src-supplier=Compliance+Statements; ComponentLink5Description: http://sigma.octopart.com:80/conflict_mineral_statement/Yageo-company-3.pdf?src-supplier=Compliance+Statements
footprint R0603 (Chip Resistor, 2-Leads, Body 1.75x0.95mm)
pins: 1, 2